# EAGLE library part 750315290 (library wurth_electronics_midcom_inc_v2-1)
Package Style: PQ3220 Mounting: THT Pins: 12 pins Bobbin: 070-5050 Best pinouts for production vary per application. Please contact Wurth Electronics Midcom, Inc. for assistance with your custom design. Website: Wurth Electronics Midcom <http://www.we-online.com/midcom> Contact us Wurth Electronics Midcom, Inc. 121 Airport Dr. Watertown, SD 57201 Phone: (605) 886-4385 Fax: (605) 886-4486 E-Mail: midcom@we-online.com
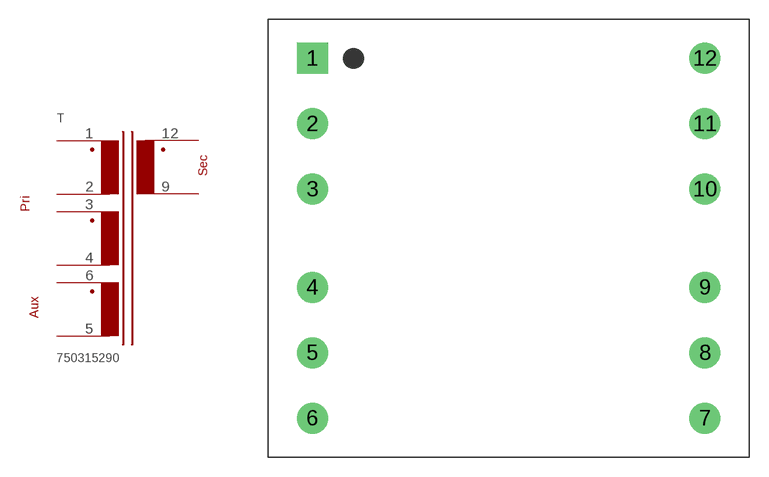
[diagram p32: symbol with the pads of PQ3220_THT_V_12PIN_(5050); footprint PQ3220_THT_V_12PIN_(5050)]

Designator prefix T

## 750315290  [PQ3220_THT_V_12PIN_(5050)]
1  1  pas
2  2  pas
3  3  pas
4  4  pas
5  5  pas
6  6  pas
9  9  pas
12  12  pas

## Footprint PQ3220_THT_V_12PIN_(5050) (pad centres in mm)
Package Style: PQ3220 Mounting: THT Pins: 12 Bobbin: 070-5050
drill 1.6 square: 1 -15.24,13.97
drill 1.6: 2 -15.24,8.89; 3 -15.24,3.81; 4 -15.24,-3.81; 5 -15.24,-8.89; 6 -15.24,-13.97; 7 15.24,-13.97; 8 15.24,-8.89; 9 15.24,-3.81; 10 15.24,3.81; 11 15.24,8.89; 12 15.24,13.97